# Altium footprint library BGA.PcbLib: 1 footprints
Each footprint in its own frame and in the unit in brackets; x right, y up, seen from the top. Pads: shape width x height; smd on the part's side, far side on the other; paste and mask are expansions set on the pad; w line width, h text height; cw(c..) or ccw(c..) is an arc to the next point about the centre after c.
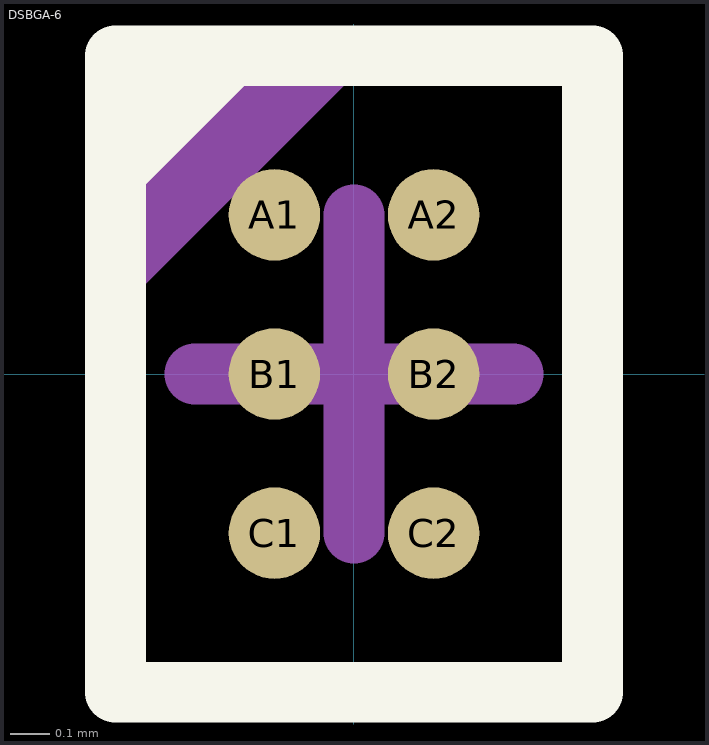
[diagram p0: the footprint, top view; thin cyan lines are the x and y axes]

## DSBGA-6 [mm]
pads (6):
  round 0.23 smd mask+0.04: A1(-0.2,0.4) A2(0.2,0.4) B1(-0.2,0) B2(0.2,0) C1(-0.2,-0.4) C2(0.2,-0.4)
Top Overlay:
  region: -0.6,0.8 -0.2,0.8 -0.6,0.4
  lines w0.153: -0.6,-0.8 -0.6,0.8 0.6,0.8 0.6,-0.8 -0.6,-0.8
Top Assembly:
  region: -0.6,0.8 0.05,0.8 -0.6,0.15
  lines w0.1: -0.6,-0.8 -0.6,0.8 0.6,0.8 0.6,-0.8 -0.6,-0.8
  text "'.Designator'" at -4.532,-0.333 h0.8
Top Courtyard:
  lines w0.1: -0.6,-0.8 -0.6,0.8 0.6,0.8 0.6,-0.8 -0.6,-0.8
  lines w0.153: -0.4,0 0.4,0 ; 0,-0.4 0,0.4
3D body "User Library-WCSP6-YFF.step": height 0.63, standoff 0, extent -0.442,-0.613 0.442,0.613